# Altium schematic symbol library Deutsch ICT Con - DT13-6P.SchLib: 1 symbol
Pins are listed as number, name and electrical type; pins without a type are passive.

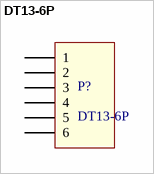
[diagram p0: symbol DT13-6P]

## DT13-6P
designator P?
CONN HEADER R/A 6POS 4.44MM
footprint Deutsch ICT Con - DT13-6P (CONN HEADER R/A 6POS 4.44MM)
pins: 1, 2, 3, 4, 5, 6